# Altium integrated library TI Data Converters Analog to Digital Converter.IntLib: 2197 symbols (part 163 of 168)
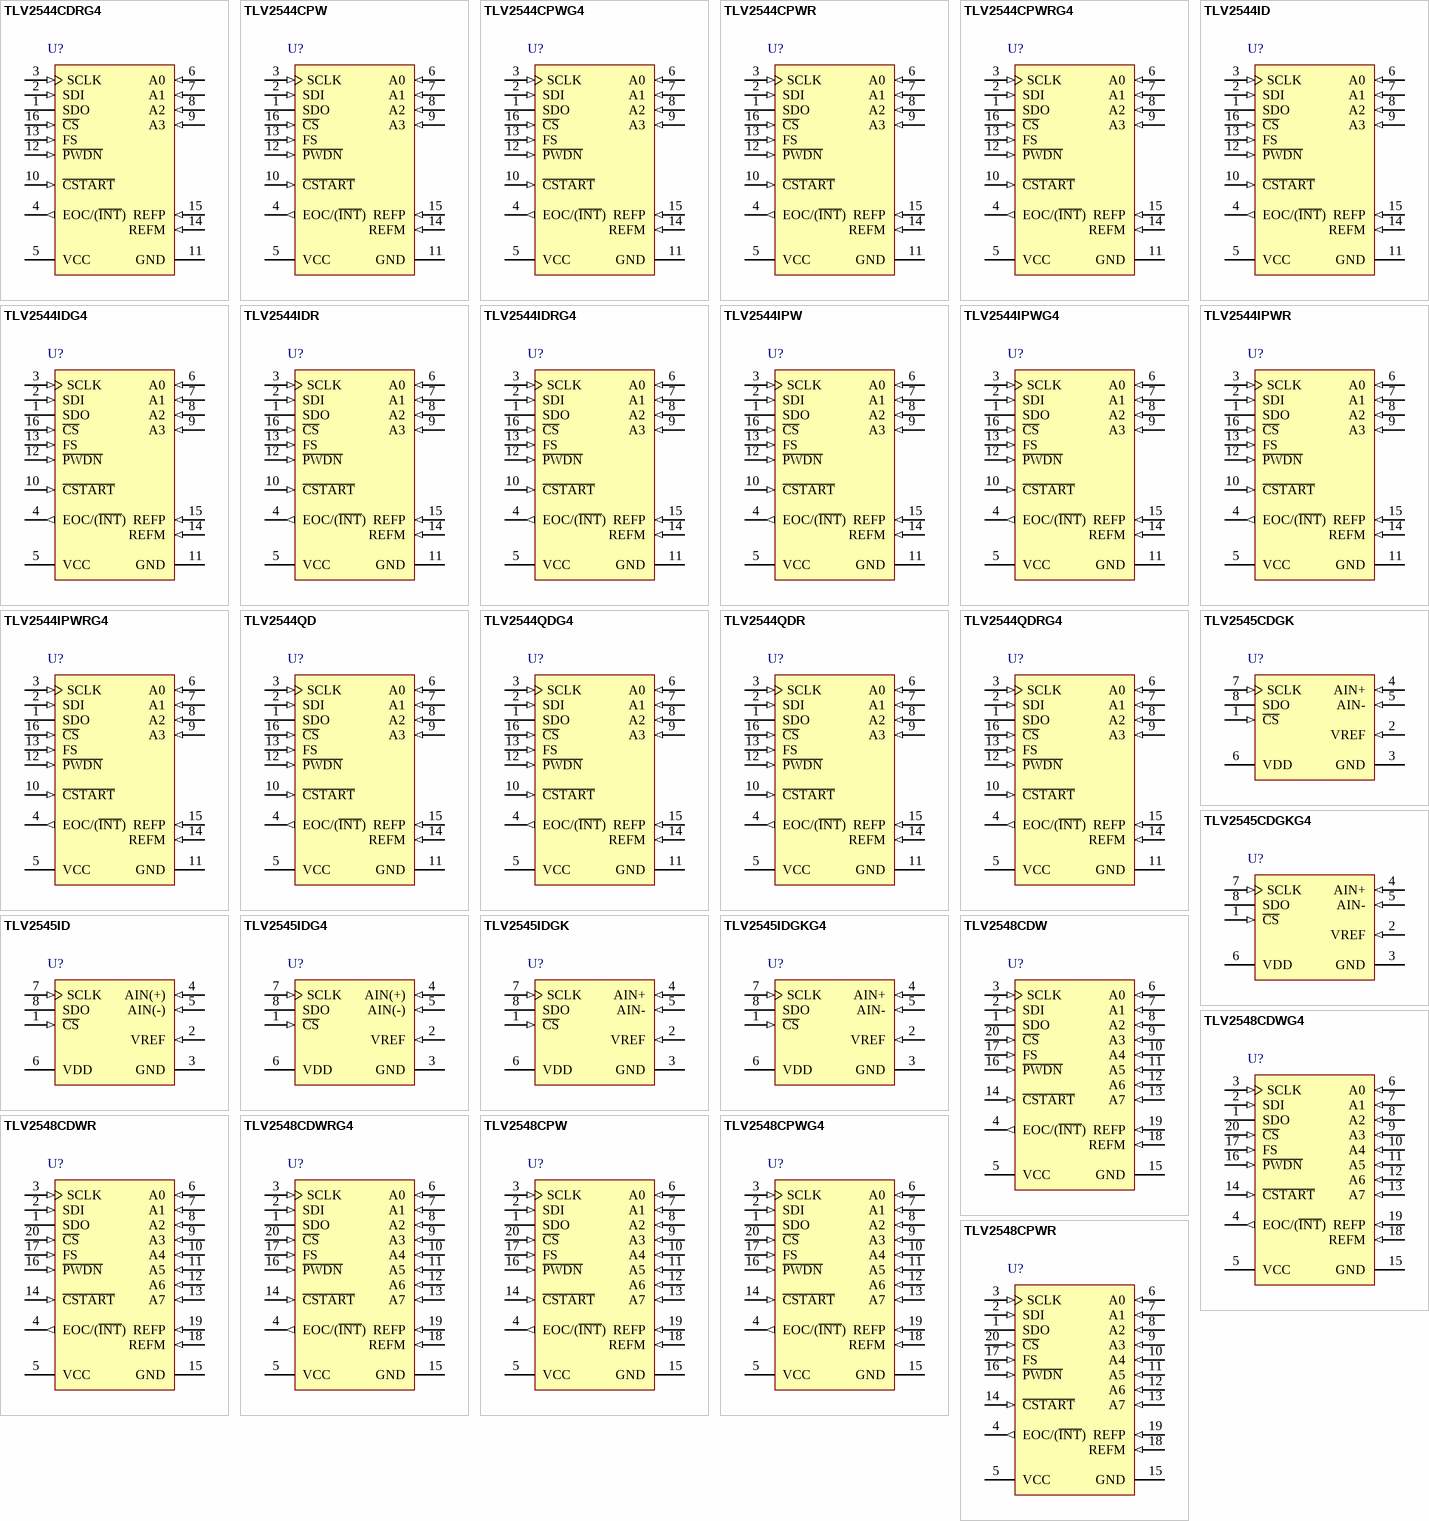
[diagram p288: symbols TLV2544CDRG4 to TLV2548CPWR]

## TLV2548CDW
designator U?
12-Bit 200 kSPS ADC Serial Out, Auto Power Down (Software and Hardware), Low Power with 8 x FIFO with 8 Channel, 0 to 70 degC, 20-pin SOIC (DW20), Green (RoHS & no Sb/Br); Manufacturer: Texas Instruments; PartNumber: TLV2548CDW; # Input Channels: 8; Analog Voltage AV/DD(Max)(V): 5.5; Analog Voltage AV/DD(Min)(V): 2.7; Architecture: SAR; ENOB(Bits): 11.6; INL(Max)(+/-LSB): 1; Interface: Serial SPI; Resolution(Bits): 12; Sample Rate (max)(SPS): 200k; SFDR(dB): 84; SINAD(dB): 70; SubFamily: Precision ADC (<=10MSPS); DatasheetVersion: SLAS198E; PackageVersion: 4040000-4/G, 01/2011; PackageReference: DW20; PackageDescription: 20-Pin Plastic Small Outline, Body 12.8 x 7.5 mm, Pitch 1.27 mm; Supplier 1: Mouser; Supplier Part Number 1: N/A; Digital Supply(Max)(V): 5.5; Digital Supply(Min)(V): 2.7; Eco-Plan: Green (RoHS & no Sb/Br); Mounting Technology: Surface Mount; Code_JEDEC: MO-013; ComponentLink1Description: Manufacturer URL; ComponentLink1URL: http://www.ti.com/; ComponentLink2Description: Datasheet; ComponentLink2URL: http://www.ti.com/general/docs/lit/getliterature.tsp?genericPartNumber=TLV2548&fileType=pdf; ComponentLink3Description: Package Specification; ComponentLink3URL: http://www.ti.com/lit/ml/mpds173a/mpds173a.pdf
footprint TI-DW20_N (SOIC, 20-Leads, Body 12.8x7.5mm, Pitch 1.27mm, IPC Medium Density)
footprint TI-DW20_L (SOIC, 20-Leads, Body 12.8x7.5mm, Pitch 1.27mm, IPC High Density)
footprint TI-DW20_M (SOIC, 20-Leads, Body 12.8x7.5mm, Pitch 1.27mm, IPC Low Density)
pins: 1 SDO (hiz) "The 3-state serial output for the A/D conversion result. SDO is kept in the high-impedance state when C\S\ is high and after the C\S\ falling edge and until the MSB (D15) is presented. The output format is MSB (D15) first. (See Datasheet)", 2 SDI (in) "Serial data input. The input data is presented with the MSB (D15) first. The first 4-bit MSBs, D(15-12) are decoded as one of the 16 commands (12 only for the TLC1514). All trailing blanks are filled with zeros. The (See Datasheet)", 3 SCLK (in) "Input serial clock. This terminal receives the serial SCLK from the host processor. SCLK is used to clock the input SDI to the input register. It is also used as the source of the conversion clock.", 4 EOC/(~{INT}) (out), 5 VCC (power) "Positive supply voltage", 6 A0 (in) "Analog signal input. The analog inputs are applied to these terminals and are internally multiplexed. The driving source impedance should be less than or equal to 1 kohm. For a source impedance greater than 1 kohm, use the (See Datasheet)", 7 A1 (in) "Analog signal input. The analog inputs are applied to these terminals and are internally multiplexed. The driving source impedance should be less than or equal to 1 kohm. For a source impedance greater than 1 kohm, use the (See Datasheet)", 8 A2 (in) "Analog signal input. The analog inputs are applied to these terminals and are internally multiplexed. The driving source impedance should be less than or equal to 1 kohm. For a source impedance greater than 1 kohm, use the (See Datasheet)", 9 A3 (in) "Analog signal input. The analog inputs are applied to these terminals and are internally multiplexed. The driving source impedance should be less than or equal to 1 kohm. For a source impedance greater than 1 kohm, use the (See Datasheet)", 10 A4 (in) "Analog signal input. The analog inputs are applied to these terminals and are internally multiplexed. The driving source impedance should be less than or equal to 1 kohm. For a source impedance greater than 1 kohm, use the (See Datasheet)", 11 A5 (in) "Analog signal input. The analog inputs are applied to these terminals and are internally multiplexed. The driving source impedance should be less than or equal to 1 kohm. For a source impedance greater than 1 kohm, use the (See Datasheet)", 12 A6 (in) "Analog signal input. The analog inputs are applied to these terminals and are internally multiplexed. The driving source impedance should be less than or equal to 1 kohm. For a source impedance greater than 1 kohm, use the (See Datasheet)", 13 A7 (in) "Analog signal input. The analog inputs are applied to these terminals and are internally multiplexed. The driving source impedance should be less than or equal to 1 kohm. For a source impedance greater than 1 kohm, use the (See Datasheet)", 14 ~{CSTART} (in) "This terminal controls the start of sampling of the analog input from a selected multiplex channel. A high-to-low transition starts sampling of the analog input signal. A low-to-high transition puts the S/H in hold mode and (See Datasheet)", 15 GND (power) "Ground return for the internal circuitry. Unless otherwise noted, all voltage measurements are with respect to GND.", 16 ~{PWDN} (in) "Both analog and reference circuits are powered down when this pin is at logic zero. The device can be restarted by active C\S\ or C\S\T\A\R\T\ after this pin is pulled back to logic one.", 17 FS (in) "DSP frame sync input. Indication of the start of a serial data frame in or out of the device. If FS remains low at the falling edge of C\S\, SDI is not enabled until an active FS is presented. A high-to-low transition on the (See Datasheet)", 18 REFM (in) "External reference input or internal reference decoupling.", 19 REFP (in) "External reference input or internal reference decoupling. (Shunt capacitors of 10 uf and 0.1 uf between REFP and REFM.) The maximum input voltage range is determined by the difference between the voltage applied to this (See Datasheet)", 20 ~{CS} (in) "Chip select. A high-to-low transition on the C\S\ input resets the internal 4-bit counter, enables SDI, and removes SDO from 3-state within a maximum setup time. SDI is disabled within a setup time after the 4-bit counter (See Datasheet)"

## TLV2548CDWG4
designator U?
12-Bit 200 kSPS ADC Serial Out, Auto Power Down (Software and Hardware), Low Power with 8 x FIFO with 8 Channel, 0 to 70 degC, 20-pin SOIC (DW20), Green (RoHS & no Sb/Br); Manufacturer: Texas Instruments; PartNumber: TLV2548CDWG4; # Input Channels: 8; Analog Voltage AV/DD(Max)(V): 5.5; Analog Voltage AV/DD(Min)(V): 2.7; Architecture: SAR; ENOB(Bits): 11.6; INL(Max)(+/-LSB): 1; Interface: Serial SPI; Resolution(Bits): 12; Sample Rate (max)(SPS): 200k; SFDR(dB): 84; SINAD(dB): 70; SubFamily: Precision ADC (<=10MSPS); DatasheetVersion: SLAS198E; PackageVersion: 4040000-4/G, 01/2011; PackageReference: DW20; PackageDescription: 20-Pin Plastic Small Outline, Body 12.8 x 7.5 mm, Pitch 1.27 mm; Supplier 1: Digi-Key; Supplier Part Number 1: ADS5409IZAY-ND; Supplier 2: Mouser; Supplier Part Number 2: N/A; Digital Supply(Max)(V): 5.5; Digital Supply(Min)(V): 2.7; Eco-Plan: Green (RoHS & no Sb/Br); Mounting Technology: Surface Mount; Code_JEDEC: MO-013; ComponentLink1Description: Manufacturer URL; ComponentLink1URL: http://www.ti.com/; ComponentLink2Description: Datasheet; ComponentLink2URL: http://www.ti.com/general/docs/lit/getliterature.tsp?genericPartNumber=TLV2548&fileType=pdf; ComponentLink3Description: Package Specification; ComponentLink3URL: http://www.ti.com/lit/ml/mpds173a/mpds173a.pdf
footprint TI-DW20_N (SOIC, 20-Leads, Body 12.8x7.5mm, Pitch 1.27mm, IPC Medium Density)
footprint TI-DW20_L (SOIC, 20-Leads, Body 12.8x7.5mm, Pitch 1.27mm, IPC High Density)
footprint TI-DW20_M (SOIC, 20-Leads, Body 12.8x7.5mm, Pitch 1.27mm, IPC Low Density)
pins: 1 SDO (hiz) "The 3-state serial output for the A/D conversion result. SDO is kept in the high-impedance state when C\S\ is high and after the C\S\ falling edge and until the MSB (D15) is presented. The output format is MSB (D15) first. (See Datasheet)", 2 SDI (in) "Serial data input. The input data is presented with the MSB (D15) first. The first 4-bit MSBs, D(15-12) are decoded as one of the 16 commands (12 only for the TLC1514). All trailing blanks are filled with zeros. The (See Datasheet)", 3 SCLK (in) "Input serial clock. This terminal receives the serial SCLK from the host processor. SCLK is used to clock the input SDI to the input register. It is also used as the source of the conversion clock.", 4 EOC/(~{INT}) (out), 5 VCC (power) "Positive supply voltage", 6 A0 (in) "Analog signal input. The analog inputs are applied to these terminals and are internally multiplexed. The driving source impedance should be less than or equal to 1 kohm. For a source impedance greater than 1 kohm, use the (See Datasheet)", 7 A1 (in) "Analog signal input. The analog inputs are applied to these terminals and are internally multiplexed. The driving source impedance should be less than or equal to 1 kohm. For a source impedance greater than 1 kohm, use the (See Datasheet)", 8 A2 (in) "Analog signal input. The analog inputs are applied to these terminals and are internally multiplexed. The driving source impedance should be less than or equal to 1 kohm. For a source impedance greater than 1 kohm, use the (See Datasheet)", 9 A3 (in) "Analog signal input. The analog inputs are applied to these terminals and are internally multiplexed. The driving source impedance should be less than or equal to 1 kohm. For a source impedance greater than 1 kohm, use the (See Datasheet)", 10 A4 (in) "Analog signal input. The analog inputs are applied to these terminals and are internally multiplexed. The driving source impedance should be less than or equal to 1 kohm. For a source impedance greater than 1 kohm, use the (See Datasheet)", 11 A5 (in) "Analog signal input. The analog inputs are applied to these terminals and are internally multiplexed. The driving source impedance should be less than or equal to 1 kohm. For a source impedance greater than 1 kohm, use the (See Datasheet)", 12 A6 (in) "Analog signal input. The analog inputs are applied to these terminals and are internally multiplexed. The driving source impedance should be less than or equal to 1 kohm. For a source impedance greater than 1 kohm, use the (See Datasheet)", 13 A7 (in) "Analog signal input. The analog inputs are applied to these terminals and are internally multiplexed. The driving source impedance should be less than or equal to 1 kohm. For a source impedance greater than 1 kohm, use the (See Datasheet)", 14 ~{CSTART} (in) "This terminal controls the start of sampling of the analog input from a selected multiplex channel. A high-to-low transition starts sampling of the analog input signal. A low-to-high transition puts the S/H in hold mode and (See Datasheet)", 15 GND (power) "Ground return for the internal circuitry. Unless otherwise noted, all voltage measurements are with respect to GND.", 16 ~{PWDN} (in) "Both analog and reference circuits are powered down when this pin is at logic zero. The device can be restarted by active C\S\ or C\S\T\A\R\T\ after this pin is pulled back to logic one.", 17 FS (in) "DSP frame sync input. Indication of the start of a serial data frame in or out of the device. If FS remains low at the falling edge of C\S\, SDI is not enabled until an active FS is presented. A high-to-low transition on the (See Datasheet)", 18 REFM (in) "External reference input or internal reference decoupling.", 19 REFP (in) "External reference input or internal reference decoupling. (Shunt capacitors of 10 uf and 0.1 uf between REFP and REFM.) The maximum input voltage range is determined by the difference between the voltage applied to this (See Datasheet)", 20 ~{CS} (in) "Chip select. A high-to-low transition on the C\S\ input resets the internal 4-bit counter, enables SDI, and removes SDO from 3-state within a maximum setup time. SDI is disabled within a setup time after the 4-bit counter (See Datasheet)"

## TLV2548CDWR
designator U?
12-Bit 200 kSPS ADC Serial Out, Auto Power Down (Software and Hardware), Low Power with 8 x FIFO with 8 Channel, 0 to 70 degC, 20-pin SOIC (DW20), Green (RoHS & no Sb/Br); Manufacturer: Texas Instruments; PartNumber: TLV2548CDWR; # Input Channels: 8; Analog Voltage AV/DD(Max)(V): 5.5; Analog Voltage AV/DD(Min)(V): 2.7; Architecture: SAR; ENOB(Bits): 11.6; INL(Max)(+/-LSB): 1; Interface: Serial SPI; Resolution(Bits): 12; Sample Rate (max)(SPS): 200k; SFDR(dB): 84; SINAD(dB): 70; SubFamily: Precision ADC (<=10MSPS); DatasheetVersion: SLAS198E; PackageVersion: 4040000-4/G, 01/2011; PackageReference: DW20; PackageDescription: 20-Pin Plastic Small Outline, Body 12.8 x 7.5 mm, Pitch 1.27 mm; Supplier 1: Digi-Key; Supplier Part Number 1: 296-35611-2-ND; Supplier 2: Digi-Key; Supplier Part Number 2: 296-35611-1-ND; Supplier 3: Digi-Key; Supplier Part Number 3: 296-35611-6-ND; Supplier 4: Farnell; Supplier Part Number 4: 2314360; Supplier 5: Newark; Supplier Part Number 5: 55W5779; Supplier 6: Newark; Supplier Part Number 6: 61W8295; Supplier 7: Mouser; Supplier Part Number 7: 595-ADS1018IRUGT; Digital Supply(Max)(V): 5.5; Digital Supply(Min)(V): 2.7; Eco-Plan: Green (RoHS & no Sb/Br); Mounting Technology: Surface Mount; Code_JEDEC: MO-013; ComponentLink1Description: Manufacturer URL; ComponentLink1URL: http://www.ti.com/; ComponentLink2Description: Datasheet; ComponentLink2URL: http://www.ti.com/general/docs/lit/getliterature.tsp?genericPartNumber=TLV2548&fileType=pdf; ComponentLink3Description: Package Specification; ComponentLink3URL: http://www.ti.com/lit/ml/mpds173a/mpds173a.pdf
footprint TI-DW20_N (SOIC, 20-Leads, Body 12.8x7.5mm, Pitch 1.27mm, IPC Medium Density)
footprint TI-DW20_L (SOIC, 20-Leads, Body 12.8x7.5mm, Pitch 1.27mm, IPC High Density)
footprint TI-DW20_M (SOIC, 20-Leads, Body 12.8x7.5mm, Pitch 1.27mm, IPC Low Density)
pins: 1 SDO (hiz) "The 3-state serial output for the A/D conversion result. SDO is kept in the high-impedance state when C\S\ is high and after the C\S\ falling edge and until the MSB (D15) is presented. The output format is MSB (D15) first. (See Datasheet)", 2 SDI (in) "Serial data input. The input data is presented with the MSB (D15) first. The first 4-bit MSBs, D(15-12) are decoded as one of the 16 commands (12 only for the TLC1514). All trailing blanks are filled with zeros. The (See Datasheet)", 3 SCLK (in) "Input serial clock. This terminal receives the serial SCLK from the host processor. SCLK is used to clock the input SDI to the input register. It is also used as the source of the conversion clock.", 4 EOC/(~{INT}) (out), 5 VCC (power) "Positive supply voltage", 6 A0 (in) "Analog signal input. The analog inputs are applied to these terminals and are internally multiplexed. The driving source impedance should be less than or equal to 1 kohm. For a source impedance greater than 1 kohm, use the (See Datasheet)", 7 A1 (in) "Analog signal input. The analog inputs are applied to these terminals and are internally multiplexed. The driving source impedance should be less than or equal to 1 kohm. For a source impedance greater than 1 kohm, use the (See Datasheet)", 8 A2 (in) "Analog signal input. The analog inputs are applied to these terminals and are internally multiplexed. The driving source impedance should be less than or equal to 1 kohm. For a source impedance greater than 1 kohm, use the (See Datasheet)", 9 A3 (in) "Analog signal input. The analog inputs are applied to these terminals and are internally multiplexed. The driving source impedance should be less than or equal to 1 kohm. For a source impedance greater than 1 kohm, use the (See Datasheet)", 10 A4 (in) "Analog signal input. The analog inputs are applied to these terminals and are internally multiplexed. The driving source impedance should be less than or equal to 1 kohm. For a source impedance greater than 1 kohm, use the (See Datasheet)", 11 A5 (in) "Analog signal input. The analog inputs are applied to these terminals and are internally multiplexed. The driving source impedance should be less than or equal to 1 kohm. For a source impedance greater than 1 kohm, use the (See Datasheet)", 12 A6 (in) "Analog signal input. The analog inputs are applied to these terminals and are internally multiplexed. The driving source impedance should be less than or equal to 1 kohm. For a source impedance greater than 1 kohm, use the (See Datasheet)", 13 A7 (in) "Analog signal input. The analog inputs are applied to these terminals and are internally multiplexed. The driving source impedance should be less than or equal to 1 kohm. For a source impedance greater than 1 kohm, use the (See Datasheet)", 14 ~{CSTART} (in) "This terminal controls the start of sampling of the analog input from a selected multiplex channel. A high-to-low transition starts sampling of the analog input signal. A low-to-high transition puts the S/H in hold mode and (See Datasheet)", 15 GND (power) "Ground return for the internal circuitry. Unless otherwise noted, all voltage measurements are with respect to GND.", 16 ~{PWDN} (in) "Both analog and reference circuits are powered down when this pin is at logic zero. The device can be restarted by active C\S\ or C\S\T\A\R\T\ after this pin is pulled back to logic one.", 17 FS (in) "DSP frame sync input. Indication of the start of a serial data frame in or out of the device. If FS remains low at the falling edge of C\S\, SDI is not enabled until an active FS is presented. A high-to-low transition on the (See Datasheet)", 18 REFM (in) "External reference input or internal reference decoupling.", 19 REFP (in) "External reference input or internal reference decoupling. (Shunt capacitors of 10 uf and 0.1 uf between REFP and REFM.) The maximum input voltage range is determined by the difference between the voltage applied to this (See Datasheet)", 20 ~{CS} (in) "Chip select. A high-to-low transition on the C\S\ input resets the internal 4-bit counter, enables SDI, and removes SDO from 3-state within a maximum setup time. SDI is disabled within a setup time after the 4-bit counter (See Datasheet)"

## TLV2548CDWRG4
designator U?
12-Bit 200 kSPS ADC Serial Out, Auto Power Down (Software and Hardware), Low Power with 8 x FIFO with 8 Channel, 0 to 70 degC, 20-pin SOIC (DW20), Green (RoHS & no Sb/Br); Manufacturer: Texas Instruments; PartNumber: TLV2548CDWRG4; # Input Channels: 8; Analog Voltage AV/DD(Max)(V): 5.5; Analog Voltage AV/DD(Min)(V): 2.7; Architecture: SAR; ENOB(Bits): 11.6; INL(Max)(+/-LSB): 1; Interface: Serial SPI; Resolution(Bits): 12; Sample Rate (max)(SPS): 200k; SFDR(dB): 84; SINAD(dB): 70; SubFamily: Precision ADC (<=10MSPS); DatasheetVersion: SLAS198E; PackageVersion: 4040000-4/G, 01/2011; PackageReference: DW20; PackageDescription: 20-Pin Plastic Small Outline, Body 12.8 x 7.5 mm, Pitch 1.27 mm; Supplier 1: Digi-Key; Supplier Part Number 1: ADC10040QCIMTX-ND; Supplier 2: Mouser; Supplier Part Number 2: 926-ADC10040QCIMTX; Digital Supply(Max)(V): 5.5; Digital Supply(Min)(V): 2.7; Eco-Plan: Green (RoHS & no Sb/Br); Mounting Technology: Surface Mount; Code_JEDEC: MO-013; ComponentLink1Description: Manufacturer URL; ComponentLink1URL: http://www.ti.com/; ComponentLink2Description: Datasheet; ComponentLink2URL: http://www.ti.com/general/docs/lit/getliterature.tsp?genericPartNumber=TLV2548&fileType=pdf; ComponentLink3Description: Package Specification; ComponentLink3URL: http://www.ti.com/lit/ml/mpds173a/mpds173a.pdf
footprint TI-DW20_N (SOIC, 20-Leads, Body 12.8x7.5mm, Pitch 1.27mm, IPC Medium Density)
footprint TI-DW20_L (SOIC, 20-Leads, Body 12.8x7.5mm, Pitch 1.27mm, IPC High Density)
footprint TI-DW20_M (SOIC, 20-Leads, Body 12.8x7.5mm, Pitch 1.27mm, IPC Low Density)
pins: 1 SDO (hiz) "The 3-state serial output for the A/D conversion result. SDO is kept in the high-impedance state when C\S\ is high and after the C\S\ falling edge and until the MSB (D15) is presented. The output format is MSB (D15) first. (See Datasheet)", 2 SDI (in) "Serial data input. The input data is presented with the MSB (D15) first. The first 4-bit MSBs, D(15-12) are decoded as one of the 16 commands (12 only for the TLC1514). All trailing blanks are filled with zeros. The (See Datasheet)", 3 SCLK (in) "Input serial clock. This terminal receives the serial SCLK from the host processor. SCLK is used to clock the input SDI to the input register. It is also used as the source of the conversion clock.", 4 EOC/(~{INT}) (out), 5 VCC (power) "Positive supply voltage", 6 A0 (in) "Analog signal input. The analog inputs are applied to these terminals and are internally multiplexed. The driving source impedance should be less than or equal to 1 kohm. For a source impedance greater than 1 kohm, use the (See Datasheet)", 7 A1 (in) "Analog signal input. The analog inputs are applied to these terminals and are internally multiplexed. The driving source impedance should be less than or equal to 1 kohm. For a source impedance greater than 1 kohm, use the (See Datasheet)", 8 A2 (in) "Analog signal input. The analog inputs are applied to these terminals and are internally multiplexed. The driving source impedance should be less than or equal to 1 kohm. For a source impedance greater than 1 kohm, use the (See Datasheet)", 9 A3 (in) "Analog signal input. The analog inputs are applied to these terminals and are internally multiplexed. The driving source impedance should be less than or equal to 1 kohm. For a source impedance greater than 1 kohm, use the (See Datasheet)", 10 A4 (in) "Analog signal input. The analog inputs are applied to these terminals and are internally multiplexed. The driving source impedance should be less than or equal to 1 kohm. For a source impedance greater than 1 kohm, use the (See Datasheet)", 11 A5 (in) "Analog signal input. The analog inputs are applied to these terminals and are internally multiplexed. The driving source impedance should be less than or equal to 1 kohm. For a source impedance greater than 1 kohm, use the (See Datasheet)", 12 A6 (in) "Analog signal input. The analog inputs are applied to these terminals and are internally multiplexed. The driving source impedance should be less than or equal to 1 kohm. For a source impedance greater than 1 kohm, use the (See Datasheet)", 13 A7 (in) "Analog signal input. The analog inputs are applied to these terminals and are internally multiplexed. The driving source impedance should be less than or equal to 1 kohm. For a source impedance greater than 1 kohm, use the (See Datasheet)", 14 ~{CSTART} (in) "This terminal controls the start of sampling of the analog input from a selected multiplex channel. A high-to-low transition starts sampling of the analog input signal. A low-to-high transition puts the S/H in hold mode and (See Datasheet)", 15 GND (power) "Ground return for the internal circuitry. Unless otherwise noted, all voltage measurements are with respect to GND.", 16 ~{PWDN} (in) "Both analog and reference circuits are powered down when this pin is at logic zero. The device can be restarted by active C\S\ or C\S\T\A\R\T\ after this pin is pulled back to logic one.", 17 FS (in) "DSP frame sync input. Indication of the start of a serial data frame in or out of the device. If FS remains low at the falling edge of C\S\, SDI is not enabled until an active FS is presented. A high-to-low transition on the (See Datasheet)", 18 REFM (in) "External reference input or internal reference decoupling.", 19 REFP (in) "External reference input or internal reference decoupling. (Shunt capacitors of 10 uf and 0.1 uf between REFP and REFM.) The maximum input voltage range is determined by the difference between the voltage applied to this (See Datasheet)", 20 ~{CS} (in) "Chip select. A high-to-low transition on the C\S\ input resets the internal 4-bit counter, enables SDI, and removes SDO from 3-state within a maximum setup time. SDI is disabled within a setup time after the 4-bit counter (See Datasheet)"

## TLV2548CPW
designator U?
12-Bit 200 kSPS ADC Serial Out, Auto Power Down (Software and Hardware), Low Power with 8 x FIFO with 8 Channel, 0 to 70 degC, 20-pin SOP (PW20), Green (RoHS & no Sb/Br); Manufacturer: Texas Instruments; PartNumber: TLV2548CPW; # Input Channels: 8; Analog Voltage AV/DD(Max)(V): 5.5; Analog Voltage AV/DD(Min)(V): 2.7; Architecture: SAR; ENOB(Bits): 11.6; INL(Max)(+/-LSB): 1; Interface: Serial SPI; Resolution(Bits): 12; Sample Rate (max)(SPS): 200k; SFDR(dB): 84; SINAD(dB): 70; SubFamily: Precision ADC (<=10MSPS); DatasheetVersion: SLAS198E; PackageVersion: 4040064-5/G, 02/2011; PackageReference: PW20; PackageDescription: 20-Pin Plastic Small Outline, Body 6.5 x 4.4 mm, Pitch 0.65 mm; Supplier 1: Digi-Key; Supplier Part Number 1: ADC12081CIVT/NOPB-ND; Supplier 2: Mouser; Supplier Part Number 2: 926-ADC12081CIVTNOPB; Digital Supply(Max)(V): 5.5; Digital Supply(Min)(V): 2.7; Eco-Plan: Green (RoHS & no Sb/Br); Mounting Technology: Surface Mount; Code_JEDEC: MO-153; ComponentLink1Description: Manufacturer URL; ComponentLink1URL: http://www.ti.com/; ComponentLink2Description: Datasheet; ComponentLink2URL: http://www.ti.com/general/docs/lit/getliterature.tsp?genericPartNumber=TLV2548&fileType=pdf; ComponentLink3Description: Package Specification; ComponentLink3URL: http://www.ti.com.cn/cn/lit/ml/mpds362/mpds362.pdf
footprint TI-PW20_N (SOP, 20-Leads, Body 6.5x4.4mm, Pitch 0.65mm, IPC Medium Density)
footprint TI-PW20_L (SOP, 20-Leads, Body 6.5x4.4mm, Pitch 0.65mm, IPC High Density)
footprint TI-PW20_M (SOP, 20-Leads, Body 6.5x4.4mm, Pitch 0.65mm, IPC Low Density)
pins: 1 SDO (hiz) "The 3-state serial output for the A/D conversion result. SDO is kept in the high-impedance state when C\S\ is high and after the C\S\ falling edge and until the MSB (D15) is presented. The output format is MSB (D15) first. (See Datasheet)", 2 SDI (in) "Serial data input. The input data is presented with the MSB (D15) first. The first 4-bit MSBs, D(15-12) are decoded as one of the 16 commands (12 only for the TLC1514). All trailing blanks are filled with zeros. The (See Datasheet)", 3 SCLK (in) "Input serial clock. This terminal receives the serial SCLK from the host processor. SCLK is used to clock the input SDI to the input register. It is also used as the source of the conversion clock.", 4 EOC/(~{INT}) (out), 5 VCC (power) "Positive supply voltage", 6 A0 (in) "Analog signal input. The analog inputs are applied to these terminals and are internally multiplexed. The driving source impedance should be less than or equal to 1 kohm. For a source impedance greater than 1 kohm, use the (See Datasheet)", 7 A1 (in) "Analog signal input. The analog inputs are applied to these terminals and are internally multiplexed. The driving source impedance should be less than or equal to 1 kohm. For a source impedance greater than 1 kohm, use the (See Datasheet)", 8 A2 (in) "Analog signal input. The analog inputs are applied to these terminals and are internally multiplexed. The driving source impedance should be less than or equal to 1 kohm. For a source impedance greater than 1 kohm, use the (See Datasheet)", 9 A3 (in) "Analog signal input. The analog inputs are applied to these terminals and are internally multiplexed. The driving source impedance should be less than or equal to 1 kohm. For a source impedance greater than 1 kohm, use the (See Datasheet)", 10 A4 (in) "Analog signal input. The analog inputs are applied to these terminals and are internally multiplexed. The driving source impedance should be less than or equal to 1 kohm. For a source impedance greater than 1 kohm, use the (See Datasheet)", 11 A5 (in) "Analog signal input. The analog inputs are applied to these terminals and are internally multiplexed. The driving source impedance should be less than or equal to 1 kohm. For a source impedance greater than 1 kohm, use the (See Datasheet)", 12 A6 (in) "Analog signal input. The analog inputs are applied to these terminals and are internally multiplexed. The driving source impedance should be less than or equal to 1 kohm. For a source impedance greater than 1 kohm, use the (See Datasheet)", 13 A7 (in) "Analog signal input. The analog inputs are applied to these terminals and are internally multiplexed. The driving source impedance should be less than or equal to 1 kohm. For a source impedance greater than 1 kohm, use the (See Datasheet)", 14 ~{CSTART} (in) "This terminal controls the start of sampling of the analog input from a selected multiplex channel. A high-to-low transition starts sampling of the analog input signal. A low-to-high transition puts the S/H in hold mode and (See Datasheet)", 15 GND (power) "Ground return for the internal circuitry. Unless otherwise noted, all voltage measurements are with respect to GND.", 16 ~{PWDN} (in) "Both analog and reference circuits are powered down when this pin is at logic zero. The device can be restarted by active C\S\ or C\S\T\A\R\T\ after this pin is pulled back to logic one.", 17 FS (in) "DSP frame sync input. Indication of the start of a serial data frame in or out of the device. If FS remains low at the falling edge of C\S\, SDI is not enabled until an active FS is presented. A high-to-low transition on the (See Datasheet)", 18 REFM (in) "External reference input or internal reference decoupling.", 19 REFP (in) "External reference input or internal reference decoupling. (Shunt capacitors of 10 uf and 0.1 uf between REFP and REFM.) The maximum input voltage range is determined by the difference between the voltage applied to this (See Datasheet)", 20 ~{CS} (in) "Chip select. A high-to-low transition on the C\S\ input resets the internal 4-bit counter, enables SDI, and removes SDO from 3-state within a maximum setup time. SDI is disabled within a setup time after the 4-bit counter (See Datasheet)"

## TLV2548CPWG4
designator U?
12-Bit 200 kSPS ADC Serial Out, Auto Power Down (Software and Hardware), Low Power with 8 x FIFO with 8 Channel, 0 to 70 degC, 20-pin SOP (PW20), Green (RoHS & no Sb/Br); Manufacturer: Texas Instruments; PartNumber: TLV2548CPWG4; # Input Channels: 8; Analog Voltage AV/DD(Max)(V): 5.5; Analog Voltage AV/DD(Min)(V): 2.7; Architecture: SAR; ENOB(Bits): 11.6; INL(Max)(+/-LSB): 1; Interface: Serial SPI; Resolution(Bits): 12; Sample Rate (max)(SPS): 200k; SFDR(dB): 84; SINAD(dB): 70; SubFamily: Precision ADC (<=10MSPS); DatasheetVersion: SLAS198E; PackageVersion: 4040064-5/G, 02/2011; PackageReference: PW20; PackageDescription: 20-Pin Plastic Small Outline, Body 6.5 x 4.4 mm, Pitch 0.65 mm; Digital Supply(Max)(V): 5.5; Digital Supply(Min)(V): 2.7; Eco-Plan: Green (RoHS & no Sb/Br); Mounting Technology: Surface Mount; Code_JEDEC: MO-153; ComponentLink1Description: Manufacturer URL; ComponentLink1URL: http://www.ti.com/; ComponentLink2Description: Datasheet; ComponentLink2URL: http://www.ti.com/general/docs/lit/getliterature.tsp?genericPartNumber=TLV2548&fileType=pdf; ComponentLink3Description: Package Specification; ComponentLink3URL: http://www.ti.com.cn/cn/lit/ml/mpds362/mpds362.pdf
footprint TI-PW20_N (SOP, 20-Leads, Body 6.5x4.4mm, Pitch 0.65mm, IPC Medium Density)
footprint TI-PW20_L (SOP, 20-Leads, Body 6.5x4.4mm, Pitch 0.65mm, IPC High Density)
footprint TI-PW20_M (SOP, 20-Leads, Body 6.5x4.4mm, Pitch 0.65mm, IPC Low Density)
pins: 1 SDO (hiz) "The 3-state serial output for the A/D conversion result. SDO is kept in the high-impedance state when C\S\ is high and after the C\S\ falling edge and until the MSB (D15) is presented. The output format is MSB (D15) first. (See Datasheet)", 2 SDI (in) "Serial data input. The input data is presented with the MSB (D15) first. The first 4-bit MSBs, D(15-12) are decoded as one of the 16 commands (12 only for the TLC1514). All trailing blanks are filled with zeros. The (See Datasheet)", 3 SCLK (in) "Input serial clock. This terminal receives the serial SCLK from the host processor. SCLK is used to clock the input SDI to the input register. It is also used as the source of the conversion clock.", 4 EOC/(~{INT}) (out), 5 VCC (power) "Positive supply voltage", 6 A0 (in) "Analog signal input. The analog inputs are applied to these terminals and are internally multiplexed. The driving source impedance should be less than or equal to 1 kohm. For a source impedance greater than 1 kohm, use the (See Datasheet)", 7 A1 (in) "Analog signal input. The analog inputs are applied to these terminals and are internally multiplexed. The driving source impedance should be less than or equal to 1 kohm. For a source impedance greater than 1 kohm, use the (See Datasheet)", 8 A2 (in) "Analog signal input. The analog inputs are applied to these terminals and are internally multiplexed. The driving source impedance should be less than or equal to 1 kohm. For a source impedance greater than 1 kohm, use the (See Datasheet)", 9 A3 (in) "Analog signal input. The analog inputs are applied to these terminals and are internally multiplexed. The driving source impedance should be less than or equal to 1 kohm. For a source impedance greater than 1 kohm, use the (See Datasheet)", 10 A4 (in) "Analog signal input. The analog inputs are applied to these terminals and are internally multiplexed. The driving source impedance should be less than or equal to 1 kohm. For a source impedance greater than 1 kohm, use the (See Datasheet)", 11 A5 (in) "Analog signal input. The analog inputs are applied to these terminals and are internally multiplexed. The driving source impedance should be less than or equal to 1 kohm. For a source impedance greater than 1 kohm, use the (See Datasheet)", 12 A6 (in) "Analog signal input. The analog inputs are applied to these terminals and are internally multiplexed. The driving source impedance should be less than or equal to 1 kohm. For a source impedance greater than 1 kohm, use the (See Datasheet)", 13 A7 (in) "Analog signal input. The analog inputs are applied to these terminals and are internally multiplexed. The driving source impedance should be less than or equal to 1 kohm. For a source impedance greater than 1 kohm, use the (See Datasheet)", 14 ~{CSTART} (in) "This terminal controls the start of sampling of the analog input from a selected multiplex channel. A high-to-low transition starts sampling of the analog input signal. A low-to-high transition puts the S/H in hold mode and (See Datasheet)", 15 GND (power) "Ground return for the internal circuitry. Unless otherwise noted, all voltage measurements are with respect to GND.", 16 ~{PWDN} (in) "Both analog and reference circuits are powered down when this pin is at logic zero. The device can be restarted by active C\S\ or C\S\T\A\R\T\ after this pin is pulled back to logic one.", 17 FS (in) "DSP frame sync input. Indication of the start of a serial data frame in or out of the device. If FS remains low at the falling edge of C\S\, SDI is not enabled until an active FS is presented. A high-to-low transition on the (See Datasheet)", 18 REFM (in) "External reference input or internal reference decoupling.", 19 REFP (in) "External reference input or internal reference decoupling. (Shunt capacitors of 10 uf and 0.1 uf between REFP and REFM.) The maximum input voltage range is determined by the difference between the voltage applied to this (See Datasheet)", 20 ~{CS} (in) "Chip select. A high-to-low transition on the C\S\ input resets the internal 4-bit counter, enables SDI, and removes SDO from 3-state within a maximum setup time. SDI is disabled within a setup time after the 4-bit counter (See Datasheet)"

## TLV2548CPWR
designator U?
12-Bit 200 kSPS ADC Serial Out, Auto Power Down (Software and Hardware), Low Power with 8 x FIFO with 8 Channel, 0 to 70 degC, 20-pin SOP (PW20), Green (RoHS & no Sb/Br); Manufacturer: Texas Instruments; PartNumber: TLV2548CPWR; # Input Channels: 8; Analog Voltage AV/DD(Max)(V): 5.5; Analog Voltage AV/DD(Min)(V): 2.7; Architecture: SAR; ENOB(Bits): 11.6; INL(Max)(+/-LSB): 1; Interface: Serial SPI; Resolution(Bits): 12; Sample Rate (max)(SPS): 200k; SFDR(dB): 84; SINAD(dB): 70; SubFamily: Precision ADC (<=10MSPS); DatasheetVersion: SLAS198E; PackageVersion: 4040064-5/G, 02/2011; PackageReference: PW20; PackageDescription: 20-Pin Plastic Small Outline, Body 6.5 x 4.4 mm, Pitch 0.65 mm; Digital Supply(Max)(V): 5.5; Digital Supply(Min)(V): 2.7; Eco-Plan: Green (RoHS & no Sb/Br); Mounting Technology: Surface Mount; Code_JEDEC: MO-153; ComponentLink1Description: Manufacturer URL; ComponentLink1URL: http://www.ti.com/; ComponentLink2Description: Datasheet; ComponentLink2URL: http://www.ti.com/general/docs/lit/getliterature.tsp?genericPartNumber=TLV2548&fileType=pdf; ComponentLink3Description: Package Specification; ComponentLink3URL: http://www.ti.com.cn/cn/lit/ml/mpds362/mpds362.pdf
footprint TI-PW20_N (SOP, 20-Leads, Body 6.5x4.4mm, Pitch 0.65mm, IPC Medium Density)
footprint TI-PW20_L (SOP, 20-Leads, Body 6.5x4.4mm, Pitch 0.65mm, IPC High Density)
footprint TI-PW20_M (SOP, 20-Leads, Body 6.5x4.4mm, Pitch 0.65mm, IPC Low Density)
pins: 1 SDO (hiz) "The 3-state serial output for the A/D conversion result. SDO is kept in the high-impedance state when C\S\ is high and after the C\S\ falling edge and until the MSB (D15) is presented. The output format is MSB (D15) first. (See Datasheet)", 2 SDI (in) "Serial data input. The input data is presented with the MSB (D15) first. The first 4-bit MSBs, D(15-12) are decoded as one of the 16 commands (12 only for the TLC1514). All trailing blanks are filled with zeros. The (See Datasheet)", 3 SCLK (in) "Input serial clock. This terminal receives the serial SCLK from the host processor. SCLK is used to clock the input SDI to the input register. It is also used as the source of the conversion clock.", 4 EOC/(~{INT}) (out), 5 VCC (power) "Positive supply voltage", 6 A0 (in) "Analog signal input. The analog inputs are applied to these terminals and are internally multiplexed. The driving source impedance should be less than or equal to 1 kohm. For a source impedance greater than 1 kohm, use the (See Datasheet)", 7 A1 (in) "Analog signal input. The analog inputs are applied to these terminals and are internally multiplexed. The driving source impedance should be less than or equal to 1 kohm. For a source impedance greater than 1 kohm, use the (See Datasheet)", 8 A2 (in) "Analog signal input. The analog inputs are applied to these terminals and are internally multiplexed. The driving source impedance should be less than or equal to 1 kohm. For a source impedance greater than 1 kohm, use the (See Datasheet)", 9 A3 (in) "Analog signal input. The analog inputs are applied to these terminals and are internally multiplexed. The driving source impedance should be less than or equal to 1 kohm. For a source impedance greater than 1 kohm, use the (See Datasheet)", 10 A4 (in) "Analog signal input. The analog inputs are applied to these terminals and are internally multiplexed. The driving source impedance should be less than or equal to 1 kohm. For a source impedance greater than 1 kohm, use the (See Datasheet)", 11 A5 (in) "Analog signal input. The analog inputs are applied to these terminals and are internally multiplexed. The driving source impedance should be less than or equal to 1 kohm. For a source impedance greater than 1 kohm, use the (See Datasheet)", 12 A6 (in) "Analog signal input. The analog inputs are applied to these terminals and are internally multiplexed. The driving source impedance should be less than or equal to 1 kohm. For a source impedance greater than 1 kohm, use the (See Datasheet)", 13 A7 (in) "Analog signal input. The analog inputs are applied to these terminals and are internally multiplexed. The driving source impedance should be less than or equal to 1 kohm. For a source impedance greater than 1 kohm, use the (See Datasheet)", 14 ~{CSTART} (in) "This terminal controls the start of sampling of the analog input from a selected multiplex channel. A high-to-low transition starts sampling of the analog input signal. A low-to-high transition puts the S/H in hold mode and (See Datasheet)", 15 GND (power) "Ground return for the internal circuitry. Unless otherwise noted, all voltage measurements are with respect to GND.", 16 ~{PWDN} (in) "Both analog and reference circuits are powered down when this pin is at logic zero. The device can be restarted by active C\S\ or C\S\T\A\R\T\ after this pin is pulled back to logic one.", 17 FS (in) "DSP frame sync input. Indication of the start of a serial data frame in or out of the device. If FS remains low at the falling edge of C\S\, SDI is not enabled until an active FS is presented. A high-to-low transition on the (See Datasheet)", 18 REFM (in) "External reference input or internal reference decoupling.", 19 REFP (in) "External reference input or internal reference decoupling. (Shunt capacitors of 10 uf and 0.1 uf between REFP and REFM.) The maximum input voltage range is determined by the difference between the voltage applied to this (See Datasheet)", 20 ~{CS} (in) "Chip select. A high-to-low transition on the C\S\ input resets the internal 4-bit counter, enables SDI, and removes SDO from 3-state within a maximum setup time. SDI is disabled within a setup time after the 4-bit counter (See Datasheet)"

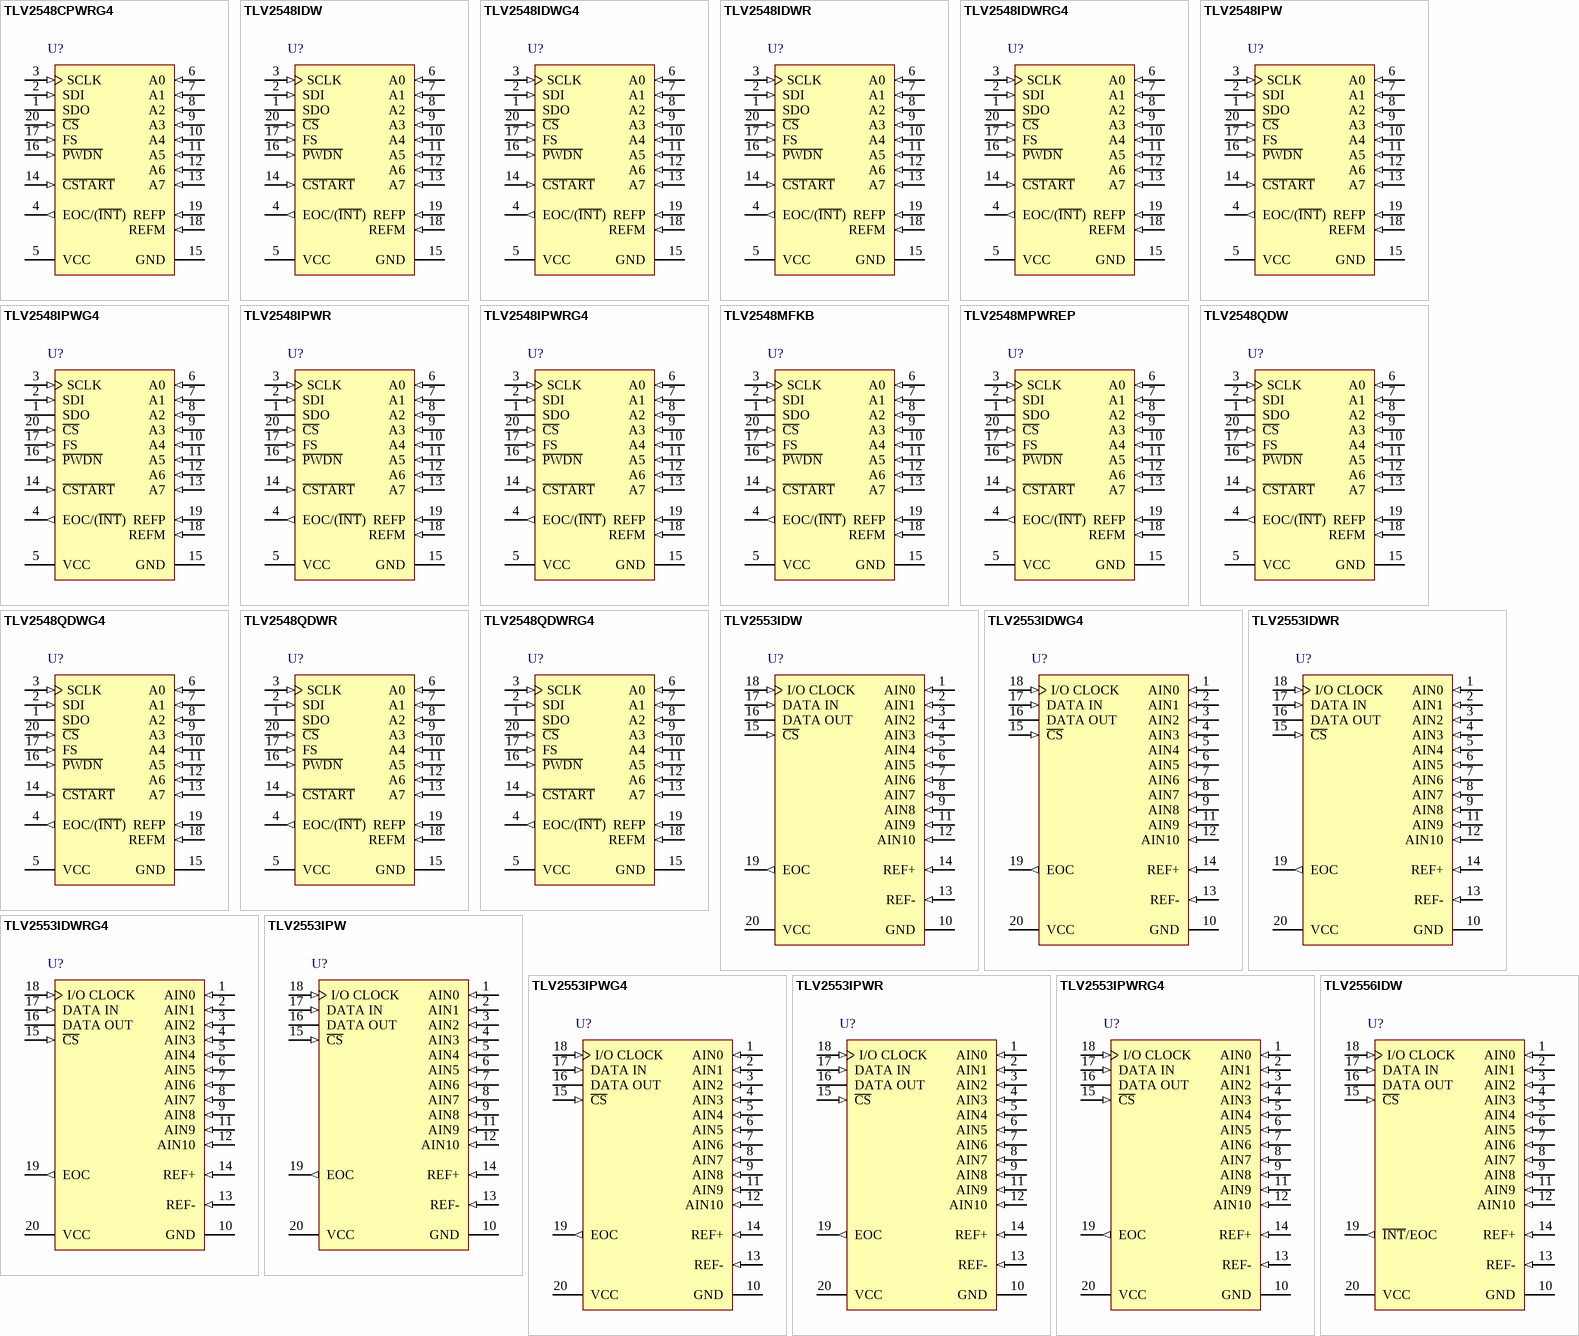
[diagram p124: symbols TLV2548CPWRG4 to TLV2556IDW]

## TLV2548CPWRG4
designator U?
12-Bit 200 kSPS ADC Serial Out, Auto Power Down (Software and Hardware), Low Power with 8 x FIFO with 8 Channel, 0 to 70 degC, 20-pin SOP (PW20), Green (RoHS & no Sb/Br); Manufacturer: Texas Instruments; PartNumber: TLV2548CPWRG4; # Input Channels: 8; Analog Voltage AV/DD(Max)(V): 5.5; Analog Voltage AV/DD(Min)(V): 2.7; Architecture: SAR; ENOB(Bits): 11.6; INL(Max)(+/-LSB): 1; Interface: Serial SPI; Resolution(Bits): 12; Sample Rate (max)(SPS): 200k; SFDR(dB): 84; SINAD(dB): 70; SubFamily: Precision ADC (<=10MSPS); DatasheetVersion: SLAS198E; PackageVersion: 4040064-5/G, 02/2011; PackageReference: PW20; PackageDescription: 20-Pin Plastic Small Outline, Body 6.5 x 4.4 mm, Pitch 0.65 mm; Supplier 1: Newark; Supplier Part Number 1: 87W7685; Supplier 2: Mouser; Supplier Part Number 2: 595-ADS5401IZAYR; Digital Supply(Max)(V): 5.5; Digital Supply(Min)(V): 2.7; Eco-Plan: Green (RoHS & no Sb/Br); Mounting Technology: Surface Mount; Code_JEDEC: MO-153; ComponentLink1Description: Manufacturer URL; ComponentLink1URL: http://www.ti.com/; ComponentLink2Description: Datasheet; ComponentLink2URL: http://www.ti.com/general/docs/lit/getliterature.tsp?genericPartNumber=TLV2548&fileType=pdf; ComponentLink3Description: Package Specification; ComponentLink3URL: http://www.ti.com.cn/cn/lit/ml/mpds362/mpds362.pdf
footprint TI-PW20_N (SOP, 20-Leads, Body 6.5x4.4mm, Pitch 0.65mm, IPC Medium Density)
footprint TI-PW20_L (SOP, 20-Leads, Body 6.5x4.4mm, Pitch 0.65mm, IPC High Density)
footprint TI-PW20_M (SOP, 20-Leads, Body 6.5x4.4mm, Pitch 0.65mm, IPC Low Density)
pins: 1 SDO (hiz) "The 3-state serial output for the A/D conversion result. SDO is kept in the high-impedance state when C\S\ is high and after the C\S\ falling edge and until the MSB (D15) is presented. The output format is MSB (D15) first. (See Datasheet)", 2 SDI (in) "Serial data input. The input data is presented with the MSB (D15) first. The first 4-bit MSBs, D(15-12) are decoded as one of the 16 commands (12 only for the TLC1514). All trailing blanks are filled with zeros. The (See Datasheet)", 3 SCLK (in) "Input serial clock. This terminal receives the serial SCLK from the host processor. SCLK is used to clock the input SDI to the input register. It is also used as the source of the conversion clock.", 4 EOC/(~{INT}) (out), 5 VCC (power) "Positive supply voltage", 6 A0 (in) "Analog signal input. The analog inputs are applied to these terminals and are internally multiplexed. The driving source impedance should be less than or equal to 1 kohm. For a source impedance greater than 1 kohm, use the (See Datasheet)", 7 A1 (in) "Analog signal input. The analog inputs are applied to these terminals and are internally multiplexed. The driving source impedance should be less than or equal to 1 kohm. For a source impedance greater than 1 kohm, use the (See Datasheet)", 8 A2 (in) "Analog signal input. The analog inputs are applied to these terminals and are internally multiplexed. The driving source impedance should be less than or equal to 1 kohm. For a source impedance greater than 1 kohm, use the (See Datasheet)", 9 A3 (in) "Analog signal input. The analog inputs are applied to these terminals and are internally multiplexed. The driving source impedance should be less than or equal to 1 kohm. For a source impedance greater than 1 kohm, use the (See Datasheet)", 10 A4 (in) "Analog signal input. The analog inputs are applied to these terminals and are internally multiplexed. The driving source impedance should be less than or equal to 1 kohm. For a source impedance greater than 1 kohm, use the (See Datasheet)", 11 A5 (in) "Analog signal input. The analog inputs are applied to these terminals and are internally multiplexed. The driving source impedance should be less than or equal to 1 kohm. For a source impedance greater than 1 kohm, use the (See Datasheet)", 12 A6 (in) "Analog signal input. The analog inputs are applied to these terminals and are internally multiplexed. The driving source impedance should be less than or equal to 1 kohm. For a source impedance greater than 1 kohm, use the (See Datasheet)", 13 A7 (in) "Analog signal input. The analog inputs are applied to these terminals and are internally multiplexed. The driving source impedance should be less than or equal to 1 kohm. For a source impedance greater than 1 kohm, use the (See Datasheet)", 14 ~{CSTART} (in) "This terminal controls the start of sampling of the analog input from a selected multiplex channel. A high-to-low transition starts sampling of the analog input signal. A low-to-high transition puts the S/H in hold mode and (See Datasheet)", 15 GND (power) "Ground return for the internal circuitry. Unless otherwise noted, all voltage measurements are with respect to GND.", 16 ~{PWDN} (in) "Both analog and reference circuits are powered down when this pin is at logic zero. The device can be restarted by active C\S\ or C\S\T\A\R\T\ after this pin is pulled back to logic one.", 17 FS (in) "DSP frame sync input. Indication of the start of a serial data frame in or out of the device. If FS remains low at the falling edge of C\S\, SDI is not enabled until an active FS is presented. A high-to-low transition on the (See Datasheet)", 18 REFM (in) "External reference input or internal reference decoupling.", 19 REFP (in) "External reference input or internal reference decoupling. (Shunt capacitors of 10 uf and 0.1 uf between REFP and REFM.) The maximum input voltage range is determined by the difference between the voltage applied to this (See Datasheet)", 20 ~{CS} (in) "Chip select. A high-to-low transition on the C\S\ input resets the internal 4-bit counter, enables SDI, and removes SDO from 3-state within a maximum setup time. SDI is disabled within a setup time after the 4-bit counter (See Datasheet)"